# Altium footprint library QFNxx.PcbLib: 6 footprints
Each footprint in its own frame and in the unit in brackets; x right, y up, seen from the top. Pads: shape width x height; smd on the part's side, far side on the other; paste and mask are expansions set on the pad; w line width, h text height; cw(c..) or ccw(c..) is an arc to the next point about the centre after c.
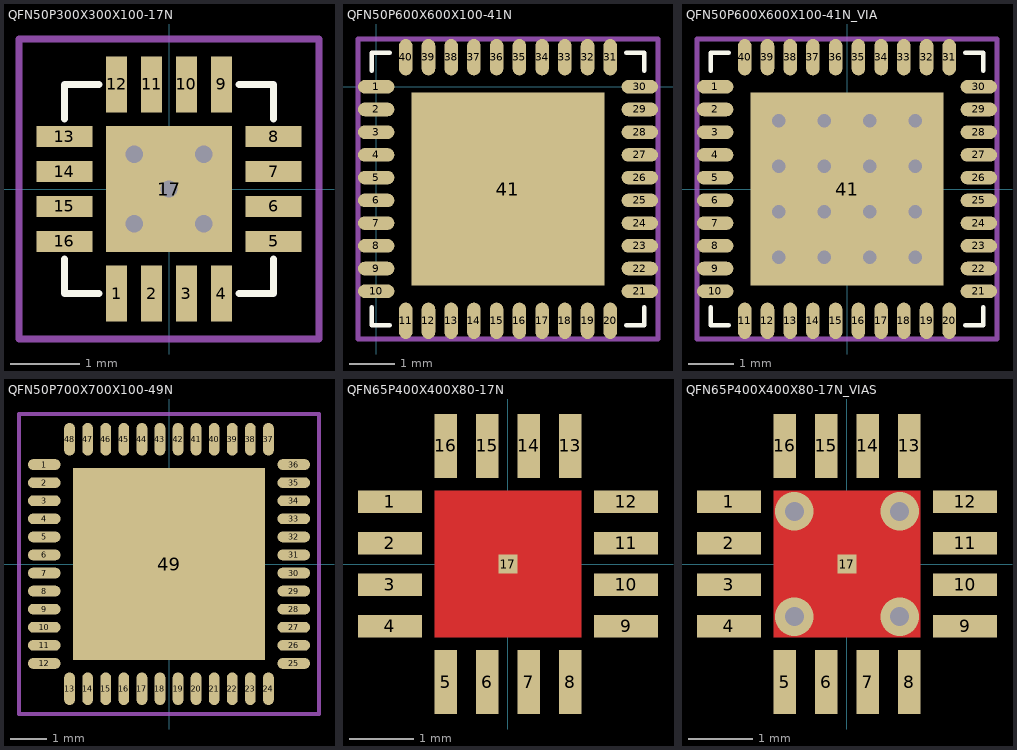
[diagram p0: the footprints below, top view; thin cyan lines are the x and y axes]

## QFN50P300X300X100-17N [mm] "QFN16 (17); Body 3 x3 x1mm"
height 1
pads (17):
  rect 0.3x0.8 smd: 1(-0.75,-1.5) 2(-0.25,-1.5) 3(0.25,-1.5) 4(0.75,-1.5) 9(0.75,1.5) 10(0.25,1.5) 11(-0.25,1.5) 12(-0.75,1.5)
  rect 0.8x0.3 smd: 5(1.5,-0.75) 6(1.5,-0.25) 7(1.5,0.25) 8(1.5,0.75) 13(-1.5,0.75) 14(-1.5,0.25) 15(-1.5,-0.25) 16(-1.5,-0.75)
  rect 1.8x1.8 smd: 17(0,0)
via 0,0 diameter 0.5 hole 0.25
via -0.5,-0.5 diameter 0.5 hole 0.25
via 0.5,-0.5 diameter 0.5 hole 0.25
via 0.5,0.5 diameter 0.5 hole 0.25
via -0.5,0.5 diameter 0.5 hole 0.25
Top Overlay:
  lines w0.1: -1.5,-1 -1.5,-1.5 -1,-1.5 ; -1.5,1 -1.5,1.5 -1,1.5 ; 1,-1.5 1.5,-1.5 1.5,-1 ; 1,1.5 1.5,1.5 1.5,1
Pick&Place:
  lines w0.1: -2.15,-2.15 -2.15,2.15 2.15,2.15 2.15,-2.15 -2.15,-2.15
3D body: height 0.2, standoff 0, extent -0.75,-0.75 0.75,0.75
3D body: height 0.2, standoff 0, extent 0.63,-1.56 0.87,-1.16
3D body: height 0.2, standoff 0, extent 0.13,-1.56 0.37,-1.16
3D body: height 0.2, standoff 0, extent -0.37,-1.56 -0.13,-1.16
3D body: height 0.2, standoff 0, extent -0.87,-1.56 -0.63,-1.16
3D body: height 0.2, standoff 0, extent 0.63,1.16 0.87,1.56
3D body: height 0.2, standoff 0, extent 0.13,1.16 0.37,1.56
3D body: height 0.2, standoff 0, extent -0.37,1.16 -0.13,1.56
3D body: height 0.2, standoff 0, extent -0.87,1.16 -0.63,1.56
3D body: height 0.2, standoff 0, extent 1.16,-0.87 1.56,-0.63
3D body: height 0.2, standoff 0, extent 1.16,-0.37 1.56,-0.13
3D body: height 0.2, standoff 0, extent 1.16,0.13 1.56,0.37
3D body: height 0.2, standoff 0, extent 1.16,0.63 1.56,0.87
3D body: height 0.2, standoff 0, extent -1.56,-0.87 -1.16,-0.63
3D body: height 0.2, standoff 0, extent -1.56,-0.37 -1.16,-0.13
3D body: height 0.2, standoff 0, extent -1.56,0.13 -1.16,0.37
3D body: height 0.2, standoff 0, extent -1.56,0.63 -1.16,0.87
3D body: height 1, standoff 0.01, extent -1.55,-1.55 1.55,1.55
3D body: height 1.01, standoff 1, extent -1.25,-1.25 -1.05,-1.05

## QFN50P600X600X100-41N [mm] "Leadless 40pin + thermal pad"
height 1
pads (41):
  oval 0.8x0.3 smd: 1(0,0) 2(0,-0.5) 3(0,-1) 4(0,-1.5) 5(0,-2) 6(0,-2.5) 7(0,-3) 8(0,-3.5) 9(0,-4) 10(0,-4.5) 21(5.8,-4.5) 22(5.8,-4) 23(5.8,-3.5) 24(5.8,-3) 25(5.8,-2.5) 26(5.8,-2) 27(5.8,-1.5) 28(5.8,-1) 29(5.8,-0.5) 30(5.8,0)
  oval 0.3x0.8 smd: 11(0.65,-5.15) 12(1.15,-5.15) 13(1.65,-5.15) 14(2.15,-5.15) 15(2.65,-5.15) 16(3.15,-5.15) 17(3.65,-5.15) 18(4.15,-5.15) 19(4.65,-5.15) 20(5.15,-5.15) 31(5.15,0.65) 32(4.65,0.65) 33(4.15,0.65) 34(3.65,0.65) 35(3.15,0.65) 36(2.65,0.65) 37(2.15,0.65) 38(1.65,0.65) 39(1.15,0.65) 40(0.65,0.65)
  rect 4.25x4.25 smd: 41(2.9,-2.25)
Top Overlay:
  lines w0.1: -0.1,-4.85 -0.1,-5.25 0.3,-5.25 ; -0.1,0.35 -0.1,0.75 0.3,0.75 ; 5.5,-5.25 5.9,-5.25 5.9,-4.85 ; 5.5,0.75 5.9,0.75 5.9,0.35
Pick&Place:
  lines w0.1: 2.6,-2.25 3.2,-2.25 ; 2.9,-2.55 2.9,-1.95 ; -0.4,-5.55 6.2,-5.55 6.2,1.05 -0.4,1.05 -0.4,-5.55
3D body: height 0.1, standoff 0, extent 0.8,-4.35 5,-0.15
3D body: height 1.01, standoff 1, extent -0.048,0.301 0.35,0.7
3D body: height 0.2, standoff 0, extent 5.05,0.375 5.25,0.775
3D body: height 0.2, standoff 0, extent 4.55,0.375 4.75,0.775
3D body: height 0.2, standoff 0, extent 4.05,0.375 4.25,0.775
3D body: height 0.2, standoff 0, extent 3.55,0.375 3.75,0.775
3D body: height 0.2, standoff 0, extent 3.05,0.375 3.25,0.775
3D body: height 0.2, standoff 0, extent 2.55,0.375 2.75,0.775
3D body: height 0.2, standoff 0, extent 2.05,0.375 2.25,0.775
3D body: height 0.2, standoff 0, extent 1.55,0.375 1.75,0.775
3D body: height 0.2, standoff 0, extent 1.05,0.375 1.25,0.775
3D body: height 0.2, standoff 0, extent 0.55,0.375 0.75,0.775
3D body: height 0.2, standoff 0, extent 5.525,-4.6 5.925,-4.4
3D body: height 0.2, standoff 0, extent 5.525,-4.1 5.925,-3.9
3D body: height 0.2, standoff 0, extent 5.525,-3.6 5.925,-3.4
3D body: height 0.2, standoff 0, extent 5.525,-3.1 5.925,-2.9
3D body: height 0.2, standoff 0, extent 5.525,-2.6 5.925,-2.4
3D body: height 0.2, standoff 0, extent 5.525,-2.1 5.925,-1.9
3D body: height 0.2, standoff 0, extent 5.525,-1.6 5.925,-1.4
3D body: height 0.2, standoff 0, extent 5.525,-1.1 5.925,-0.9
3D body: height 0.2, standoff 0, extent 5.525,-0.6 5.925,-0.4
3D body: height 0.2, standoff 0, extent 5.525,-0.1 5.925,0.1
3D body: height 0.2, standoff 0, extent 0.55,-5.275 0.75,-4.875
3D body: height 0.2, standoff 0, extent 1.05,-5.275 1.25,-4.875
3D body: height 0.2, standoff 0, extent 1.55,-5.275 1.75,-4.875
3D body: height 0.2, standoff 0, extent 2.05,-5.275 2.25,-4.875
3D body: height 0.2, standoff 0, extent 2.55,-5.275 2.75,-4.875
3D body: height 0.2, standoff 0, extent 3.05,-5.275 3.25,-4.875
3D body: height 0.2, standoff 0, extent 3.55,-5.275 3.75,-4.875
3D body: height 0.2, standoff 0, extent 4.05,-5.275 4.25,-4.875
3D body: height 0.2, standoff 0, extent 4.55,-5.275 4.75,-4.875
3D body: height 0.2, standoff 0, extent 5.05,-5.275 5.25,-4.875
3D body: height 0.2, standoff 0, extent -0.125,-4.6 0.275,-4.4
3D body: height 0.2, standoff 0, extent -0.125,-4.1 0.275,-3.9
3D body: height 0.2, standoff 0, extent -0.125,-3.6 0.275,-3.4
3D body: height 0.2, standoff 0, extent -0.125,-3.1 0.275,-2.9
3D body: height 0.2, standoff 0, extent -0.125,-2.6 0.275,-2.4
3D body: height 0.2, standoff 0, extent -0.125,-2.1 0.275,-1.9
3D body: height 0.2, standoff 0, extent -0.125,-1.6 0.275,-1.4
3D body: height 0.2, standoff 0, extent -0.125,-1.1 0.275,-0.9
3D body: height 0.2, standoff 0, extent -0.125,-0.6 0.275,-0.4
3D body: height 0.2, standoff 0, extent -0.125,-0.1 0.275,0.1
3D body: height 1, standoff 0.03, extent -0.1,-5.25 5.9,0.75

## QFN50P600X600X100-41N_VIA [mm] "Leadless 40pin + thermal pad"
height 1
pads (41):
  oval 0.8x0.3 smd: 1(-2.9,2.25) 2(-2.9,1.75) 3(-2.9,1.25) 4(-2.9,0.75) 5(-2.9,0.25) 6(-2.9,-0.25) 7(-2.9,-0.75) 8(-2.9,-1.25) 9(-2.9,-1.75) 10(-2.9,-2.25) 21(2.9,-2.25) 22(2.9,-1.75) 23(2.9,-1.25) 24(2.9,-0.75) 25(2.9,-0.25) 26(2.9,0.25) 27(2.9,0.75) 28(2.9,1.25) 29(2.9,1.75) 30(2.9,2.25)
  oval 0.3x0.8 smd: 11(-2.25,-2.9) 12(-1.75,-2.9) 13(-1.25,-2.9) 14(-0.75,-2.9) 15(-0.25,-2.9) 16(0.25,-2.9) 17(0.75,-2.9) 18(1.25,-2.9) 19(1.75,-2.9) 20(2.25,-2.9) 31(2.25,2.9) 32(1.75,2.9) 33(1.25,2.9) 34(0.75,2.9) 35(0.25,2.9) 36(-0.25,2.9) 37(-0.75,2.9) 38(-1.25,2.9) 39(-1.75,2.9) 40(-2.25,2.9)
  rect 4.25x4.25 smd paste-2.5: 41(0,0)
via -1.5,-0.5 diameter 0.6 hole 0.3
via -1.5,0.5 diameter 0.6 hole 0.3
via -1.5,1.5 diameter 0.6 hole 0.3
via -0.5,1.5 diameter 0.6 hole 0.3
via 0.5,1.5 diameter 0.6 hole 0.3
via 1.5,1.5 diameter 0.6 hole 0.3
via 1.5,0.5 diameter 0.6 hole 0.3
via 1.5,-0.5 diameter 0.6 hole 0.3
via 1.5,-1.5 diameter 0.6 hole 0.3
via 0.5,-1.5 diameter 0.6 hole 0.3
via -0.5,-1.5 diameter 0.6 hole 0.3
via -1.5,-1.5 diameter 0.6 hole 0.3
via 0.5,0.5 diameter 0.6 hole 0.3
via -0.5,0.5 diameter 0.6 hole 0.3
via 0.5,-0.5 diameter 0.6 hole 0.3
via -0.5,-0.5 diameter 0.6 hole 0.3
Top Overlay:
  lines w0.1: -3,-2.6 -3,-3 -2.6,-3 ; -3,2.6 -3,3 -2.6,3 ; 2.6,-3 3,-3 3,-2.6 ; 2.6,3 3,3 3,2.6
Top Paste:
  rectangle: -2.1,-2.1 -0.9,-0.9
  rectangle: -2.1,-0.6 -0.9,0.6
  rectangle: -2.1,0.9 -0.9,2.1
  rectangle: -0.6,0.9 0.6,2.1
  rectangle: 0.9,0.9 2.1,2.1
  rectangle: 0.9,-0.6 2.1,0.6
  rectangle: -0.6,-0.6 0.6,0.6
  rectangle: -0.65,-2.1 0.55,-0.9
  rectangle: 0.9,-2.1 2.1,-0.9
Top Solder:
  rectangle: 0.9,-2.1 2.1,-0.9
  rectangle: -0.65,-2.1 0.55,-0.9
  rectangle: -2.1,-2.1 -0.9,-0.9
  rectangle: 0.9,-0.6 2.1,0.6
  rectangle: -0.6,-0.6 0.6,0.6
  rectangle: -2.1,-0.6 -0.9,0.6
  rectangle: 0.9,0.9 2.1,2.1
  rectangle: -0.6,0.9 0.6,2.1
  rectangle: -2.1,0.9 -0.9,2.1
Pick&Place:
  lines w0.1: -0.3,0 0.3,0 ; 0,-0.3 0,0.3 ; -3.3,-3.3 3.3,-3.3 3.3,3.3 -3.3,3.3 -3.3,-3.3
3D body: height 0.1, standoff 0, extent -2.1,-2.1 2.1,2.1
3D body: height 1.01, standoff 1, extent -2.948,2.551 -2.55,2.95
3D body: height 0.2, standoff 0, extent 2.15,2.625 2.35,3.025
3D body: height 0.2, standoff 0, extent 1.65,2.625 1.85,3.025
3D body: height 0.2, standoff 0, extent 1.15,2.625 1.35,3.025
3D body: height 0.2, standoff 0, extent 0.65,2.625 0.85,3.025
3D body: height 0.2, standoff 0, extent 0.15,2.625 0.35,3.025
3D body: height 0.2, standoff 0, extent -0.35,2.625 -0.15,3.025
3D body: height 0.2, standoff 0, extent -0.85,2.625 -0.65,3.025
3D body: height 0.2, standoff 0, extent -1.35,2.625 -1.15,3.025
3D body: height 0.2, standoff 0, extent -1.85,2.625 -1.65,3.025
3D body: height 0.2, standoff 0, extent -2.35,2.625 -2.15,3.025
3D body: height 0.2, standoff 0, extent 2.625,-2.35 3.025,-2.15
3D body: height 0.2, standoff 0, extent 2.625,-1.85 3.025,-1.65
3D body: height 0.2, standoff 0, extent 2.625,-1.35 3.025,-1.15
3D body: height 0.2, standoff 0, extent 2.625,-0.85 3.025,-0.65
3D body: height 0.2, standoff 0, extent 2.625,-0.35 3.025,-0.15
3D body: height 0.2, standoff 0, extent 2.625,0.15 3.025,0.35
3D body: height 0.2, standoff 0, extent 2.625,0.65 3.025,0.85
3D body: height 0.2, standoff 0, extent 2.625,1.15 3.025,1.35
3D body: height 0.2, standoff 0, extent 2.625,1.65 3.025,1.85
3D body: height 0.2, standoff 0, extent 2.625,2.15 3.025,2.35
3D body: height 0.2, standoff 0, extent -2.35,-3.025 -2.15,-2.625
3D body: height 0.2, standoff 0, extent -1.85,-3.025 -1.65,-2.625
3D body: height 0.2, standoff 0, extent -1.35,-3.025 -1.15,-2.625
3D body: height 0.2, standoff 0, extent -0.85,-3.025 -0.65,-2.625
3D body: height 0.2, standoff 0, extent -0.35,-3.025 -0.15,-2.625
3D body: height 0.2, standoff 0, extent 0.15,-3.025 0.35,-2.625
3D body: height 0.2, standoff 0, extent 0.65,-3.025 0.85,-2.625
3D body: height 0.2, standoff 0, extent 1.15,-3.025 1.35,-2.625
3D body: height 0.2, standoff 0, extent 1.65,-3.025 1.85,-2.625
3D body: height 0.2, standoff 0, extent 2.15,-3.025 2.35,-2.625
3D body: height 0.2, standoff 0, extent -3.025,-2.35 -2.625,-2.15
3D body: height 0.2, standoff 0, extent -3.025,-1.85 -2.625,-1.65
3D body: height 0.2, standoff 0, extent -3.025,-1.35 -2.625,-1.15
3D body: height 0.2, standoff 0, extent -3.025,-0.85 -2.625,-0.65
3D body: height 0.2, standoff 0, extent -3.025,-0.35 -2.625,-0.15
3D body: height 0.2, standoff 0, extent -3.025,0.15 -2.625,0.35
3D body: height 0.2, standoff 0, extent -3.025,0.65 -2.625,0.85
3D body: height 0.2, standoff 0, extent -3.025,1.15 -2.625,1.35
3D body: height 0.2, standoff 0, extent -3.025,1.65 -2.625,1.85
3D body: height 0.2, standoff 0, extent -3.025,2.15 -2.625,2.35
3D body: height 1, standoff 0.03, extent -3,-3 3,3

## QFN50P700X700X100-49N [mm] "Leadless 48pin + thermal pad"
height 1
pads (49):
  oval 0.9x0.3 smd: 1(-3.45,2.75) 2(-3.45,2.25) 3(-3.45,1.75) 4(-3.45,1.25) 5(-3.45,0.75) 6(-3.45,0.25) 7(-3.45,-0.25) 8(-3.45,-0.75) 9(-3.45,-1.25) 10(-3.45,-1.75) 11(-3.45,-2.25) 12(-3.45,-2.75) 25(3.45,-2.75) 26(3.45,-2.25) 27(3.45,-1.75) 28(3.45,-1.25) 29(3.45,-0.75) 30(3.45,-0.25) 31(3.45,0.25) 32(3.45,0.75) 33(3.45,1.25) 34(3.45,1.75) 35(3.45,2.25) 36(3.45,2.75)
  oval 0.3x0.9 smd: 13(-2.75,-3.45) 14(-2.25,-3.45) 15(-1.75,-3.45) 16(-1.25,-3.45) 17(-0.75,-3.45) 18(-0.25,-3.45) 19(0.25,-3.45) 20(0.75,-3.45) 21(1.25,-3.45) 22(1.75,-3.45) 23(2.25,-3.45) 24(2.75,-3.45) 37(2.75,3.45) 38(2.25,3.45) 39(1.75,3.45) 40(1.25,3.45) 41(0.75,3.45) 42(0.25,3.45) 43(-0.25,3.45) 44(-0.75,3.45) 45(-1.25,3.45) 46(-1.75,3.45) 47(-2.25,3.45) 48(-2.75,3.45)
  rect 5.3x5.3 smd: 49(0,0)
Pick&Place:
  lines w0.1: -0.3,0 0.3,0 ; 0,-0.3 0,0.3 ; -4.15,-4.15 -4.15,4.15 4.15,4.15 4.15,-4.15 -4.15,-4.15
3D body: height 1, standoff 0.03, extent -3.5,-3.5 3.5,3.5
3D body: height 0.2, standoff 0, extent -3.525,2.65 -3.125,2.85
3D body: height 0.2, standoff 0, extent -3.525,2.15 -3.125,2.35
3D body: height 0.2, standoff 0, extent -3.525,1.65 -3.125,1.85
3D body: height 0.2, standoff 0, extent -3.525,1.15 -3.125,1.35
3D body: height 0.2, standoff 0, extent -3.525,0.65 -3.125,0.85
3D body: height 0.2, standoff 0, extent -3.525,0.15 -3.125,0.35
3D body: height 0.2, standoff 0, extent -3.525,-0.35 -3.125,-0.15
3D body: height 0.2, standoff 0, extent -3.525,-0.85 -3.125,-0.65
3D body: height 0.2, standoff 0, extent -3.525,-1.35 -3.125,-1.15
3D body: height 0.2, standoff 0, extent -3.525,-1.85 -3.125,-1.65
3D body: height 0.2, standoff 0, extent -3.525,-2.35 -3.125,-2.15
3D body: height 0.2, standoff 0, extent -3.525,-2.85 -3.125,-2.65
3D body: height 0.2, standoff 0, extent 2.65,-3.525 2.85,-3.125
3D body: height 0.2, standoff 0, extent 2.15,-3.525 2.35,-3.125
3D body: height 0.2, standoff 0, extent 1.65,-3.525 1.85,-3.125
3D body: height 0.2, standoff 0, extent 1.15,-3.525 1.35,-3.125
3D body: height 0.2, standoff 0, extent 0.65,-3.525 0.85,-3.125
3D body: height 0.2, standoff 0, extent 0.15,-3.525 0.35,-3.125
3D body: height 0.2, standoff 0, extent -0.35,-3.525 -0.15,-3.125
3D body: height 0.2, standoff 0, extent -0.85,-3.525 -0.65,-3.125
3D body: height 0.2, standoff 0, extent -1.35,-3.525 -1.15,-3.125
3D body: height 0.2, standoff 0, extent -1.85,-3.525 -1.65,-3.125
3D body: height 0.2, standoff 0, extent -2.35,-3.525 -2.15,-3.125
3D body: height 0.2, standoff 0, extent -2.85,-3.525 -2.65,-3.125
3D body: height 0.2, standoff 0, extent 3.125,2.65 3.525,2.85
3D body: height 0.2, standoff 0, extent 3.125,2.15 3.525,2.35
3D body: height 0.2, standoff 0, extent 3.125,1.65 3.525,1.85
3D body: height 0.2, standoff 0, extent 3.125,1.15 3.525,1.35
3D body: height 0.2, standoff 0, extent 3.125,0.65 3.525,0.85
3D body: height 0.2, standoff 0, extent 3.125,0.15 3.525,0.35
3D body: height 0.2, standoff 0, extent 3.125,-0.35 3.525,-0.15
3D body: height 0.2, standoff 0, extent 3.125,-0.85 3.525,-0.65
3D body: height 0.2, standoff 0, extent 3.125,-1.35 3.525,-1.15
3D body: height 0.2, standoff 0, extent 3.125,-1.85 3.525,-1.65
3D body: height 0.2, standoff 0, extent 3.125,-2.35 3.525,-2.15
3D body: height 0.2, standoff 0, extent 3.125,-2.85 3.525,-2.65
3D body: height 0.2, standoff 0, extent -2.85,3.125 -2.65,3.525
3D body: height 0.2, standoff 0, extent -2.35,3.125 -2.15,3.525
3D body: height 0.2, standoff 0, extent -1.85,3.125 -1.65,3.525
3D body: height 0.2, standoff 0, extent -1.35,3.125 -1.15,3.525
3D body: height 0.2, standoff 0, extent -0.85,3.125 -0.65,3.525
3D body: height 0.2, standoff 0, extent -0.35,3.125 -0.15,3.525
3D body: height 0.2, standoff 0, extent 0.15,3.125 0.35,3.525
3D body: height 0.2, standoff 0, extent 0.65,3.125 0.85,3.525
3D body: height 0.2, standoff 0, extent 1.15,3.125 1.35,3.525
3D body: height 0.2, standoff 0, extent 1.65,3.125 1.85,3.525
3D body: height 0.2, standoff 0, extent 2.15,3.125 2.35,3.525
3D body: height 0.2, standoff 0, extent 2.65,3.125 2.85,3.525
3D body: height 1.01, standoff 1, extent -2.948,2.551 -2.55,2.95
3D body: height 0.1, standoff 0, extent -2.8,-2.8 2.8,2.8

## QFN65P400X400X80-17N [mm] "Pitch 0.65; 4x4mm; w/Termal Pad"
height 0.8
pads (17):
  rect 1x0.35 smd: 1(-1.85,0.975) 2(-1.85,0.325) 3(-1.85,-0.325) 4(-1.85,-0.975) 9(1.85,-0.975) 10(1.85,-0.325) 11(1.85,0.325) 12(1.85,0.975)
  rect 0.35x1 smd: 5(-0.975,-1.85) 6(-0.325,-1.85) 7(0.325,-1.85) 8(0.975,-1.85) 13(0.975,1.85) 14(0.325,1.85) 15(-0.325,1.85) 16(-0.975,1.85)
  rect 0.3x0.3 smd: 17(0,0)
Top Layer:
  rectangle: -1.15,-1.15 1.15,1.15
Top Paste:
  rectangle: 0.575,-1.075 1.075,-0.575
  rectangle: 0.575,0.575 1.075,1.075
  rectangle: -1.075,0.575 -0.575,1.075
  rectangle: -1.075,-1.075 -0.575,-0.575
  rectangle: -0.25,0.575 0.25,1.075
  rectangle: -0.25,-1.075 0.25,-0.575
  rectangle: 0.575,-0.25 1.075,0.25
  rectangle: -1.075,-0.25 -0.575,0.25
  rectangle: -0.25,-0.25 0.25,0.25
3D body: height 0.8, standoff 0, extent -2,-2 2,2
3D body: height 0.81, standoff 0.8, extent -1.723,1.326 -1.325,1.725

## QFN65P400X400X80-17N_VIAS [mm] "Pitch 0.65; 4x4mm; w/Termal Pad"
height 0.8
pads (17):
  rect 1x0.35 smd: 1(-1.85,0.975) 2(-1.85,0.325) 3(-1.85,-0.325) 4(-1.85,-0.975) 9(1.85,-0.975) 10(1.85,-0.325) 11(1.85,0.325) 12(1.85,0.975)
  rect 0.35x1 smd: 5(-0.975,-1.85) 6(-0.325,-1.85) 7(0.325,-1.85) 8(0.975,-1.85) 13(0.975,1.85) 14(0.325,1.85) 15(-0.325,1.85) 16(-0.975,1.85)
  rect 0.3x0.3 smd: 17(0,0)
via -0.825,0.825 diameter 0.6 hole 0.3
via 0.825,0.825 diameter 0.6 hole 0.3
via 0.825,-0.825 diameter 0.6 hole 0.3
via -0.825,-0.825 diameter 0.6 hole 0.3
Top Layer:
  rectangle: -1.15,-1.15 1.15,1.15
Top Paste:
  rectangle: -0.25,0.575 0.25,1.075
  rectangle: -0.25,-1.075 0.25,-0.575
  rectangle: 0.575,-0.25 1.075,0.25
  rectangle: -1.075,-0.25 -0.575,0.25
  rectangle: -0.25,-0.25 0.25,0.25
3D body: height 0.8, standoff 0, extent -2,-2 2,2
3D body: height 0.81, standoff 0.8, extent -1.723,1.326 -1.325,1.725